# Altium footprint library Solar_Phone_Charger.PcbLib: 7 footprints
Each footprint in its own frame and in the unit in brackets; x right, y up, seen from the top. Pads: shape width x height; smd on the part's side, far side on the other; paste and mask are expansions set on the pad; w line width, h text height; cw(c..) or ccw(c..) is an arc to the next point about the centre after c.
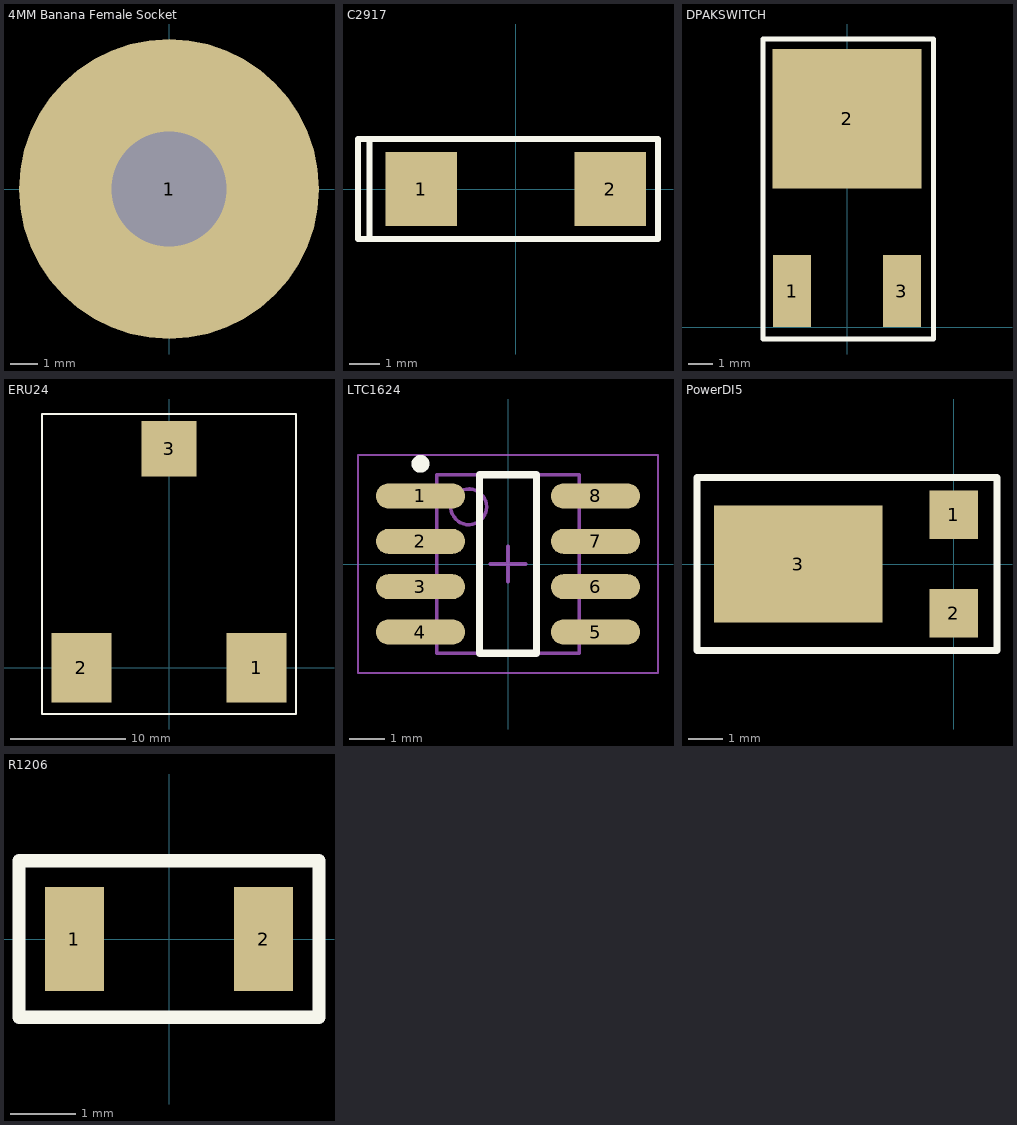
[diagram p0: the footprints below, top view; thin cyan lines are the x and y axes]

## 4MM Banana Female Socket [mm]
pads (1):
  round 11 hole 4.2: 1(0,0)

## C2917 [mm]
pads (2):
  rect 2.37x2.43 smd: 1(-3.12,0) 2(3.12,0)
Top Overlay:
  lines w0.2: -4.826,-1.524 -4.826,1.651 ; -5.208,1.651 4.699,1.651 4.699,-1.651 -5.206,-1.651 -5.208,1.651

## DPAKSWITCH [mm]
pads (3):
  rect 1.6x3 smd: 1(-2.29,1.5) 3(2.29,1.5)
  rect 6.2x5.8 smd: 2(0,8.68)
Top Overlay:
  lines w0.2: -3.5,-0.5 -3.5,12 3.6,12 3.6,-0.5 -3.5,-0.5

## ERU24 [mm]
pads (3):
  rect 5.2x6 smd: 1(7.6,0) 2(-7.6,0)
  rect 4.8x4.8 smd: 3(0,19)
Top Overlay:
  lines w0.2: -11,-4 11,-4 11,22 -11,22 -11,-4

## LTC1624 [mm]
pads (8):
  oval 2.5x0.7 smd: 1(-2.45,1.905) 2(-2.45,0.635) 3(-2.45,-0.635) 4(-2.45,-1.905) 5(2.45,-1.905) 6(2.45,-0.635) 7(2.45,0.635) 8(2.45,1.905)
Top Overlay:
  circle w0.25: c-2.45,2.805 r0.125
  lines w0.2: -0.8,-2.5 -0.8,2.5 0.8,2.5 0.8,-2.5 -0.8,-2.5
Mechanical 13:
  circle w0.1: c-1.1,1.6 r0.5
  lines w0.1: -2,-2.5 -2,2.5 2,2.5 2,-2.5 -2,-2.5
Mechanical 15:
  lines w0.05: -4.2,-3.05 -4.2,3.05 4.2,3.05 4.2,-3.05 -4.2,-3.05
  lines w0.1: -0.5,0 0.5,0 ; 0,-0.5 0,0.5
3D body: height 1.76, standoff 0.1, extent -2,-2.5 2,2.5

## PowerDI5 [mm]
pads (3):
  rect 1.4x1.39 smd: 1(0,1.42) 2(0,-1.42)
  rect 4.86x3.36 smd: 3(-4.482,0)
Top Overlay:
  lines w0.2: -7.4,-2.5 -7.4,2.5 1.25,2.5 1.25,-2.5 -7.4,-2.5

## R1206 [mm]
pads (2):
  rect 0.9x1.6 smd: 1(-1.45,0) 2(1.45,0)
Top Overlay:
  lines w0.2: -2.3,-1.2 -2.3,1.2 2.3,1.2 2.3,-1.2 -2.3,-1.2